# Altium footprint library SignalCommunications.PCBLIB: 466 footprints (part 20 of 30)
Each footprint in its own frame and in the unit in brackets; x right, y up, seen from the top. Pads: shape width x height; smd on the part's side, far side on the other; paste and mask are expansions set on the pad; w line width, h text height; cw(c..) or ccw(c..) is an arc to the next point about the centre after c.
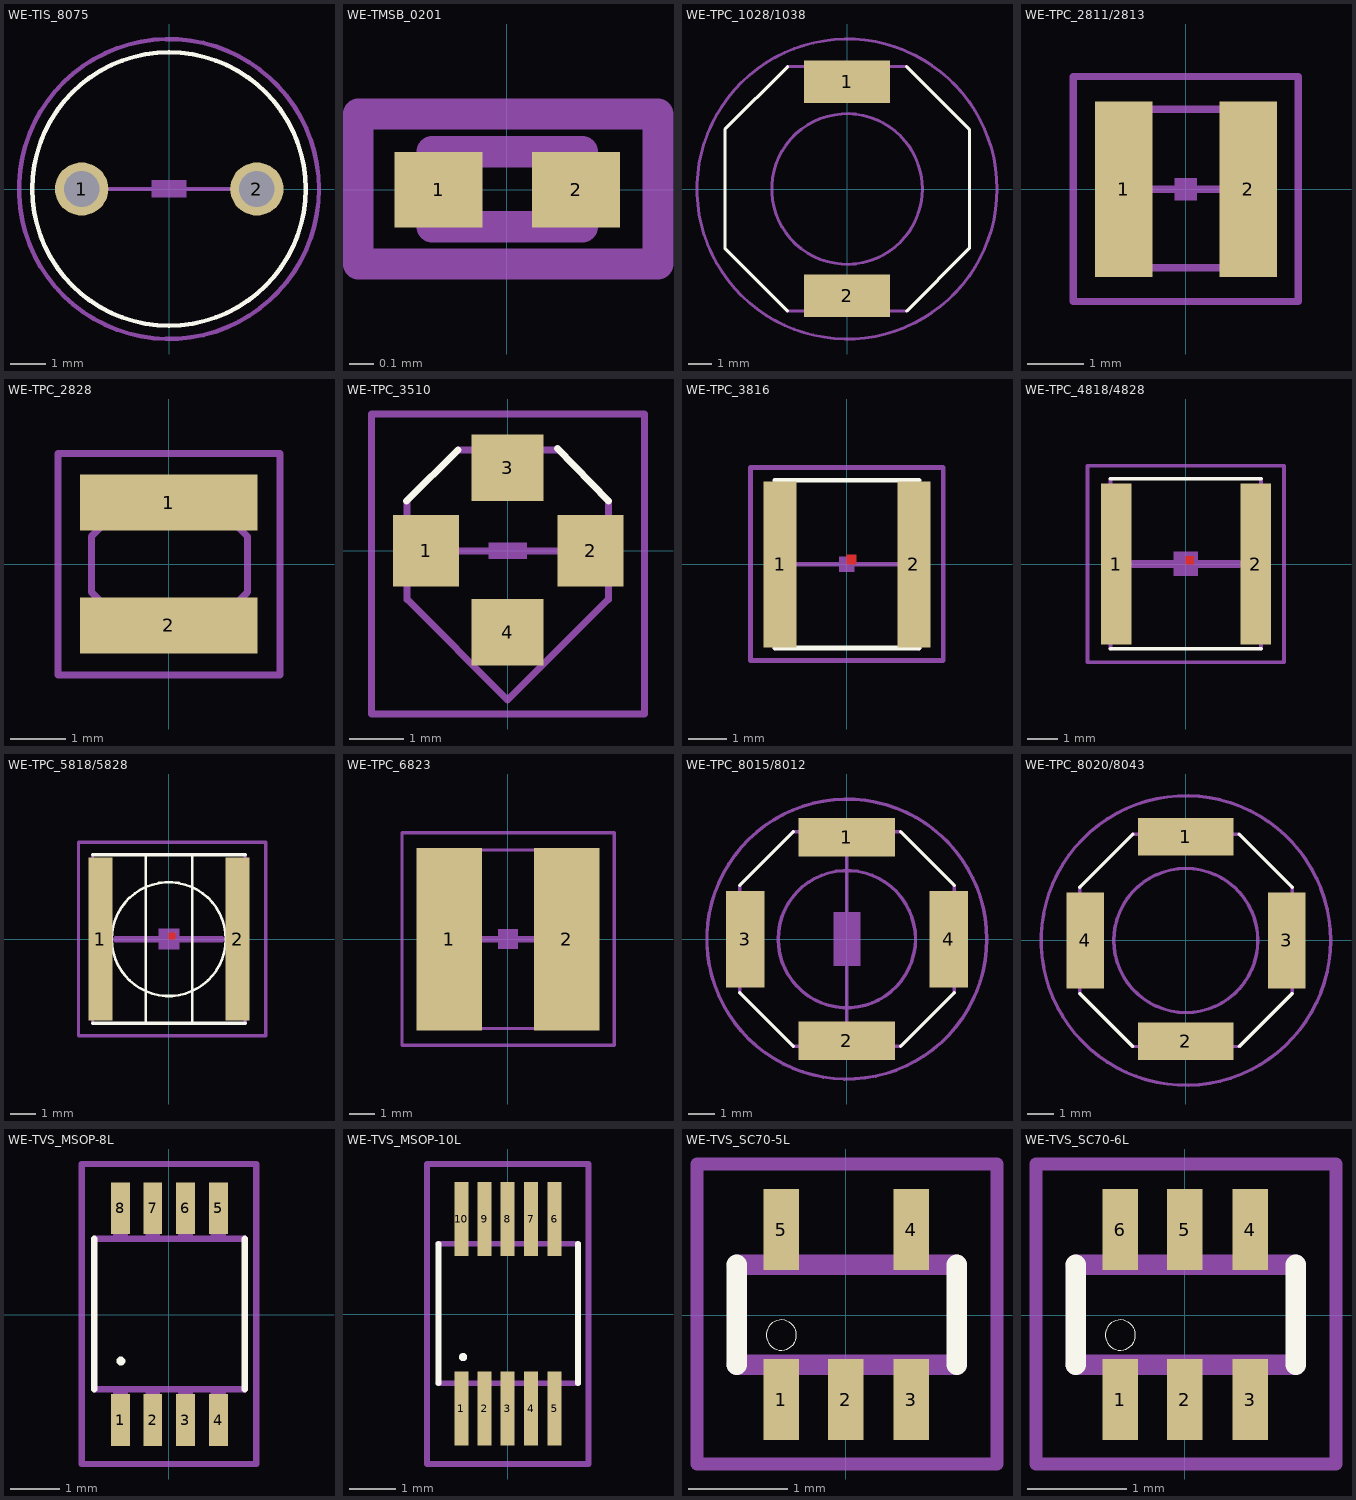
[diagram p19: the footprints below, top view; thin cyan lines are the x and y axes]

## WE-TIS_8075 [mil]
pads (2):
  round 60 hole 40: 1(-98.43,0) 2(99,0)
Top Overlay:
  circle w5: c0,0 r154
Mechanical 16:
  region: 19.92,-9.76 19.92,10.08 -19.76,10.08 -19.76,-9.76
  lines w5: -98.43,0 99,0
Mechanical 27:
  circle w5: c0,0 r169

## WE-TMSB_0201 [mil]
pads (2):
  rect 14x12 smd: 1(-10.83,0) 2(11,0)
Mechanical 16:
  lines w5: -11.81,-5.91 -11.81,6 12,6 12,-5.91 -11.81,-5.91
Mechanical 27:
  lines w5: -23.62,-11.81 24,-11.81 24,12 -23.62,12 -23.62,-11.81

## WE-TPC_1028/1038 [mil]
pads (2):
  rect 142x71 smd: 1(0,178) 2(0,-177.17)
Top Overlay:
  lines w5: -98.43,-202.76 -202.76,-98.43 -202.76,99 -98.43,203 ; 99,-202.76 203,-98.43 203,99 99,203
Mechanical 10:
  circle w5: c0,0 r125
Mechanical 16:
  lines w5: -98.43,-202.76 99,-202.76 ; -98.43,203 99,203
Mechanical 27:
  circle w5: c0,0 r249

## WE-TPC_2811/2813 [mil]
pads (2):
  rect 40x123 smd: 1(-43.31,0) 2(44,0)
Mechanical 16:
  rectangle: -7.87,-7.87 8,8
  lines w5: -35.43,0 -7.87,0 ; 8,0 36,0 ; -55.12,-55.12 56,-55.12 56,56 -55.12,56 -55.12,-55.12
Mechanical 27:
  lines w5: -78.74,-78.74 79,-78.74 79,79 -78.74,79 -78.74,-78.74

## WE-TPC_2828 [mil]
pads (2):
  rect 126x40 smd: 1(0,44) 2(0,-43.31)
Mechanical 16:
  lines w5: -55.12,-19.68 -55.12,20 -19.68,56 20,56 56,20 56,-19.68 20,-55.12 -19.68,-55.12 -55.12,-19.68
Mechanical 27:
  lines w5: -78.74,-78.74 79,-78.74 79,79 -78.74,79 -78.74,-78.74

## WE-TPC_3510 [mil]
pads (4):
  rect 48x52 smd: 1(-59.06,0) 2(60,0)
  rect 52x48 smd: 3(0,60) 4(0,-59.06)
Top Overlay:
  lines w5: -73.23,36 -35.83,73 ; 36,74 73,36 ; 73,36 73,36
Mechanical 16:
  rectangle: -13.78,-5.91 14,6
  lines w5: -72.83,-35.43 -72.83,-35.04 ; -72.83,36 -72.83,-35.04 ; -53.54,0 56,0 ; -35.43,73 36,73 ; 73,-35.43 73,-35.04 ; 73,36 73,-35.04 ; -72.83,-35.04 0,-107.87 73,-35.04
Mechanical 27:
  lines w5: -98.43,-118.11 99,-118.11 99,99 -98.43,99 -98.43,-118.11

## WE-TPC_3816 [mil]
pads (2):
  rect 34x170 smd: 1(-68.15,0) 2(69,0)
Top Layer:
  region: 0,0 10,0 10,10 0,10
  region: 0,0 10,0 10,10 0,10
  region: 0,0 10,0 10,10 0,10
  region: 0,0 10,0 10,10 0,10
Top Overlay:
  lines w5: -73.5,-85.75 74,-85.75 ; -73.5,86 74,86
Top Paste:
  region: 0,0 10,0 10,10 0,10
  region: 0,0 10,0 10,10 0,10
  region: 0,0 10,0 10,10 0,10
  region: 0,0 10,0 10,10 0,10
Top Solder:
  region: 0,0 10,0 10,10 0,10
  region: 0,0 10,0 10,10 0,10
  region: 0,0 10,0 10,10 0,10
  region: 0,0 10,0 10,10 0,10
Mechanical 16:
  region: 8,-7.87 8,8 -7.87,8 -7.87,-7.87
  lines w5: -73.5,-85.75 -73.5,86 ; -51.18,0 52,0 ; 74,-85.75 74,86
Mechanical 27:
  lines w5: -98.43,-98.43 99,-98.43 99,99 -98.43,99 -98.43,-98.43

## WE-TPC_4818/4828 [mil]
pads (2):
  rect 40x209 smd: 1(-90.55,0) 2(91,0)
Top Layer:
  region: 0,0 10,0 10,10 0,10
  region: 0,0 10,0 10,10 0,10
  region: 0,0 10,0 10,10 0,10
  region: 0,0 10,0 10,10 0,10
Top Overlay:
  lines w5: -98,-110.25 98,-110.25 ; -98,111 98,111
Top Paste:
  region: 0,0 10,0 10,10 0,10
  region: 0,0 10,0 10,10 0,10
  region: 0,0 10,0 10,10 0,10
  region: 0,0 10,0 10,10 0,10
Top Solder:
  region: 0,0 10,0 10,10 0,10
  region: 0,0 10,0 10,10 0,10
  region: 0,0 10,0 10,10 0,10
  region: 0,0 10,0 10,10 0,10
Mechanical 16:
  region: 16,-15.75 16,16 -15.75,16 -15.75,-15.75
  lines w5: -98,-110.25 -98,111 ; 98,-110.25 98,111
  lines w10: -68.9,0 69,0
Mechanical 27:
  lines w5: -127.95,-127.95 128,-127.95 128,128 -127.95,128 -127.95,-127.95

## WE-TPC_5818/5828 [mil]
pads (2):
  rect 36x249 smd: 1(-104.33,0) 2(105,0)
Top Layer:
  region: 0,0 10,0 10,10 0,10
  region: 0,0 10,0 10,10 0,10
  region: 0,0 10,0 10,10 0,10
  region: 0,0 10,0 10,10 0,10
Top Overlay:
  circle w4: c0,0 r87
  lines w4: -35.43,-125.98 -35.43,126 ; 36,-125.98 36,126
  lines w5: -116.37,-128.63 117,-128.63 ; -116.37,129 117,129
Top Paste:
  region: 0,0 10,0 10,10 0,10
  region: 0,0 10,0 10,10 0,10
  region: 0,0 10,0 10,10 0,10
  region: 0,0 10,0 10,10 0,10
Top Solder:
  region: 0,0 10,0 10,10 0,10
  region: 0,0 10,0 10,10 0,10
  region: 0,0 10,0 10,10 0,10
  region: 0,0 10,0 10,10 0,10
Mechanical 16:
  region: 16,-15.75 16,16 -15.75,16 -15.75,-15.75
  lines w5: -116.37,-128.63 -116.37,129 ; 117,-128.63 117,129
  lines w10: -80.71,0 81,0
Mechanical 27:
  lines w5: -137.8,-147.64 148,-147.64 148,148 -137.8,148 -137.8,-147.64

## WE-TPC_6823 [mil]
pads (2):
  rect 103x288 smd: 1(-92.52,0) 2(93,0)
Mechanical 16:
  region: 16,-15.75 16,16 -15.75,16 -15.75,-15.75
  lines w5: -134.75,-140.87 135,-140.87 135,141 -134.75,141 -134.75,-140.87
  lines w10: -92.52,0 93,0
Mechanical 27:
  lines w5: -167.32,-167.32 168,-167.32 168,168 -167.32,168 -167.32,-167.32

## WE-TPC_8015/8012 [mil]
pads (4):
  rect 142x56 smd: 1(0,150) 2(0,-149.61)
  rect 56x142 smd: 3(-149.61,0) 4(150,0)
Top Overlay:
  lines w5: -157.48,-78.74 -78.74,-157.48 ; -157.48,79 -78.74,158 ; 79,-157.48 158,-78.74 ; 79,158 158,79
Mechanical 10:
  circle w5: c0,0 r101
Mechanical 16:
  rectangle: -19.68,-39.37 20,40
  lines w5: -157.48,-78.74 -157.48,79 ; -78.74,-157.48 79,-157.48 ; -78.74,158 79,158 ; 0,-157.48 0,158 ; 158,-78.74 158,79
Mechanical 27:
  circle w5: c0,0 r206

## WE-TPC_8020/8043 [mil]
pads (4):
  rect 142x56 smd: 1(0,154) 2(0,-149.61)
  rect 56x142 smd: 3(150,0) 4(-149.61,0)
Top Overlay:
  lines w5: -157.48,-78.74 -78.74,-157.48 ; -157.48,79 -78.74,158 ; 79,-157.48 158,-78.74 ; 79,158 158,79
Mechanical 10:
  circle w5: c0,0 r107
Mechanical 16:
  lines w5: -157.48,-78.74 -157.48,79 ; -78.74,-157.48 79,-157.48 ; -78.74,158 79,158 ; 158,-78.74 158,79
Mechanical 27:
  circle w5: c0,0 r215

## WE-TVS_MSOP-8L [mil]
pads (8):
  rect 15x41 smd: 1(-38.39,-83.46) 2(-12.8,-83.46) 3(13,-83.46) 4(39,-83.46) 5(39,84) 6(13,84) 7(-12.8,84) 8(-38.39,84)
Top Overlay:
  circle w5: c-37.99,-36.73 r1
  lines w5: -59.06,-59.06 -59.06,60 ; 60,-59.06 60,60
Mechanical 16:
  rectangle: -44.29,60 -32.48,97
  rectangle: -44.29,-96.46 -32.48,-59.06
  rectangle: 33,60 45,97
  rectangle: 33,-96.46 45,-59.06
  rectangle: -18.7,60 -6.89,97
  rectangle: 7,60 19,97
  rectangle: -18.7,-96.46 -6.89,-59.06
  rectangle: 7,-96.46 19,-59.06
  lines w5: -59.06,-59.06 60,-59.06 ; -59.06,60 60,60
Mechanical 27:
  lines w5: -68.9,-118.11 69,-118.11 69,119 -68.9,119 -68.9,-118.11

## WE-TVS_MSOP-10L [mil]
pads (10):
  rect 12x63 smd: 1(-39.37,-80.71) 2(-19.68,-80.71) 3(0,-80.71) 4(20,-80.71) 5(40,-80.71) 6(40,81) 7(20,81) 8(0,81) 9(-19.68,81) 10(-39.37,81)
Top Overlay:
  circle w5: c-37.99,-36.73 r1
  lines w5: -59.06,-59.06 -59.06,60 ; 60,-59.06 60,60
Mechanical 16:
  rectangle: -43.31,60 -35.43,97
  rectangle: -23.62,60 -15.75,97
  rectangle: -3.94,60 4,97
  rectangle: 16,60 24,97
  rectangle: 36,60 44,97
  rectangle: -43.31,-96.46 -35.43,-59.06
  rectangle: 36,-96.46 44,-59.06
  rectangle: -23.62,-96.46 -15.75,-59.06
  rectangle: 16,-96.46 24,-59.06
  rectangle: -3.94,-96.46 4,-59.06
  lines w5: -59.06,-59.06 60,-59.06 ; -59.06,60 60,60
Mechanical 27:
  lines w5: -68.9,-127.95 69,-127.95 69,128 -68.9,128 -68.9,-127.95

## WE-TVS_SC70-5L [mil]
pads (5):
  rect 14x32 smd: 1(-25.59,-33.46) 2(0,-33.46) 3(26,-33.46) 4(26,34) 5(-25.59,34)
Top Overlay:
  circle w0: c-25.59,-7.87 r6
  lines w8: -43.31,-19.68 -43.31,20 ; 44,-19.68 44,20
Mechanical 16:
  rectangle: 20,24 32,44
  rectangle: -31.5,24 -19.68,44
  rectangle: -31.5,-43.31 -19.68,-23.62
  rectangle: -5.91,-43.31 6,-23.62
  rectangle: 20,-43.31 32,-23.62
  lines w8: -43.31,-19.68 44,-19.68 ; -43.31,20 44,20
Mechanical 27:
  lines w5: -59.06,-59.06 60,-59.06 60,60 -59.06,60 -59.06,-59.06

## WE-TVS_SC70-6L [mil]
pads (6):
  rect 14x32 smd: 1(-25.59,-33.46) 2(0,-33.46) 3(26,-33.46) 4(26,34) 5(0,34) 6(-25.59,34)
Top Overlay:
  circle w0: c-25.59,-7.87 r6
  lines w8: -43.31,-19.68 -43.31,20 ; 44,-19.68 44,20
Mechanical 16:
  rectangle: -31.5,-43.31 -19.68,-23.62
  rectangle: -5.91,-43.31 6,-23.62
  rectangle: 20,-43.31 32,-23.62
  rectangle: 20,24 32,44
  rectangle: -5.91,24 6,44
  rectangle: -31.5,24 -19.68,44
  lines w8: -43.31,-19.68 44,-19.68 ; -43.31,20 44,20
Mechanical 27:
  lines w5: -59.06,-59.06 60,-59.06 60,60 -59.06,60 -59.06,-59.06